# EAGLE library part CNY74-H (library Dmitry)
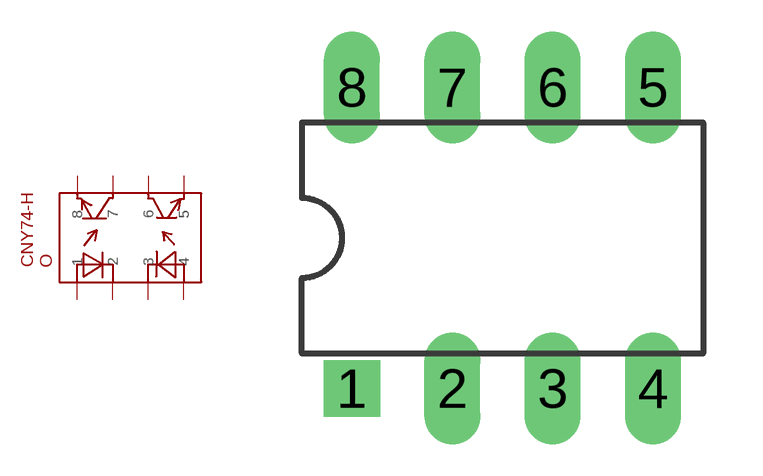
[diagram p3: symbol with the pads of CNY_DIP8; footprint CNY_DIP8]

Designator prefix O

## CNY74-H  [CNY_DIP8]
1  1
2  2
3  3
4  4
5  5
6  6
7  7
8  8

## Footprint CNY_DIP8 (pad centres in mm)
Dual In Line Package
drill 0.8 pad 1.422 square: 1 -3.81,-3.81
drill 0.8 pad 1.422 long: 2 -1.27,-3.81; 3 1.27,-3.81; 4 3.81,-3.81; 5 3.81,3.81; 6 1.27,3.81; 7 -1.27,3.81; 8 -3.81,3.81